# Altium footprint library PCB - LEADED - SOT-23-3_PITCH1MM3.PCBLIB: 1 footprints
Each footprint in its own frame and in the unit in brackets; x right, y up, seen from the top. Pads: shape width x height; smd on the part's side, far side on the other; paste and mask are expansions set on the pad; w line width, h text height; cw(c..) or ccw(c..) is an arc to the next point about the centre after c.
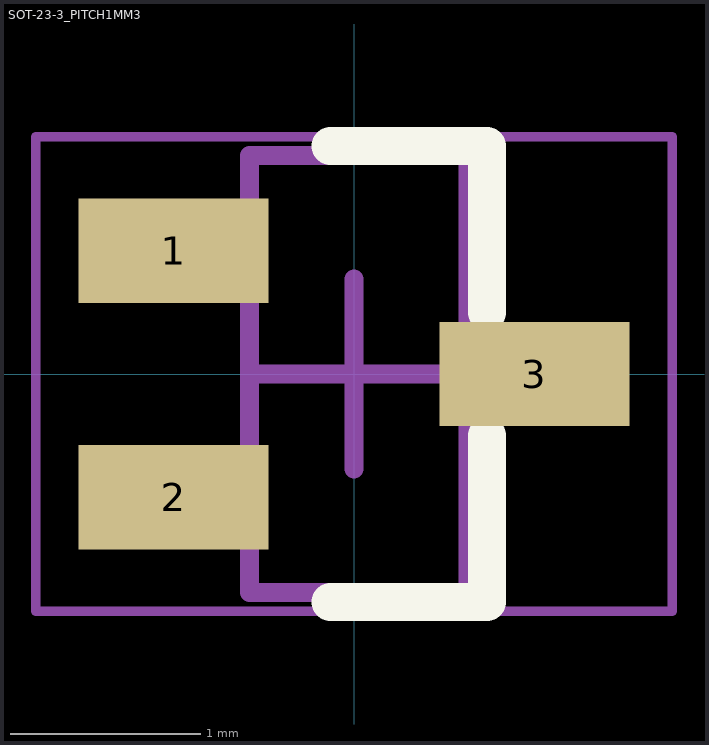
[diagram p0: the footprint, top view; thin cyan lines are the x and y axes]

## SOT-23-3_PITCH1MM3 [mm] "3-pin SOT-23"
height 1.1
pads (3):
  rect 1x0.55 smd: 1(-0.95,0.65) 2(-0.95,-0.65) 3(0.95,0)
Top Overlay:
  lines w0.2: -0.125,-1.2 0.7,-1.2 0.7,-0.325 ; -0.125,1.2 0.7,1.2 0.7,0.325
Top Assembly:
  lines w0.05: -0.55,-0.85 -1.1,-0.85 -1.1,-0.45 -0.55,-0.45 ; -0.55,0.45 -1.1,0.45 -1.1,0.85 -0.55,0.85 ; 0.6,-0.2 1.1,-0.2 1.1,0.2 0.6,0.2
  lines w0.1: -0.55,-1.15 0.6,-1.15 0.6,1.15 -0.55,1.15 -0.55,-1.15
Top Courtyard:
  lines w0.05: -1.675,-1.25 1.675,-1.25 1.675,1.25 -1.675,1.25 -1.675,-1.25
Top Designator:
  text ".Designator" at 0.4,-1.224 h0.76
Top Component Center:
  lines w0.1: -0.5,0 0.5,0 ; 0,-0.5 0,0.5
3D body "SDMG0340LC-7-F.stp": height 1.1, standoff 0, extent -1.1,-1.1 1.1,1.1